# EAGLE library part LT3570EFEPBF (library Power)
Reglator
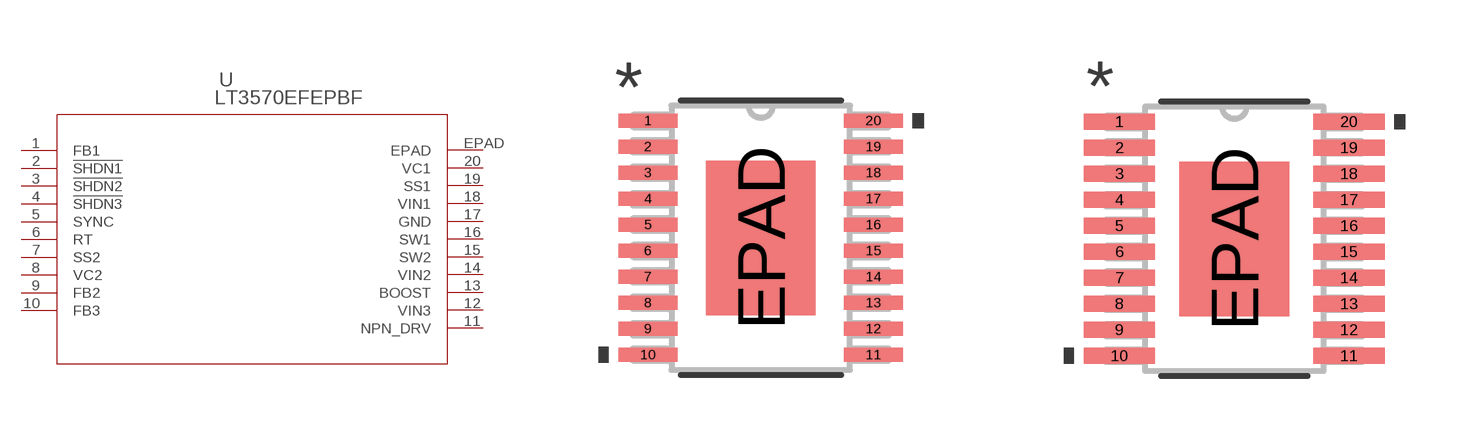
[diagram p0: symbol with the pads of TSSOP-20_FE/CB; footprints TSSOP-20_FE/CB, TSSOP-20_FE/CB-M]

Designator prefix U

## LT3570EFEPBF (MANUFACTURER_PART_NUMBER: lt3570efe#pbf; VENDOR: Linear Technology)  [TSSOP-20_FE/CB]
1  FB1  pas
2  !SHDN1  pas
3  !SHDN2  pas
4  !SHDN3  pas
5  SYNC  pas
6  RT  pas
7  SS2  pas
8  VC2  pas
9  FB2  pas
10  FB3  pas
11  NPN_DRV  pas
12  VIN3  in
13  BOOST  pas
14  VIN2  in
15  SW2  pas
16  SW1  pas
17  GND  pwr
18  VIN1  in
19  SS1  pas
20  VC1  pas
EPAD  EPAD  pas

## LT3570EFEPBFTSSOP-20_FE/CB-M (MANUFACTURER_PART_NUMBER: lt3570efe#pbf; VENDOR: Linear Technology)  [TSSOP-20_FE/CB-M]
Pads as for TSSOP-20_FE/CB

## LT3570EFEPBFTSSOP-20_FE/CB-L (MANUFACTURER_PART_NUMBER: lt3570efe#pbf; VENDOR: Linear Technology)  [TSSOP-20_FE/CB-L]
Pads as for TSSOP-20_FE/CB

## Footprint TSSOP-20_FE/CB (pad centres in mm)
smd 1.473 x 0.356: 1 -2.819,2.926; 2 -2.819,2.276; 3 -2.819,1.626; 4 -2.819,0.975; 5 -2.819,0.325; 6 -2.819,-0.325; 7 -2.819,-0.975; 8 -2.819,-1.626; 9 -2.819,-2.276; 10 -2.819,-2.926; 11 2.819,-2.926; 12 2.819,-2.276; 13 2.819,-1.626; 14 2.819,-0.975; 15 2.819,-0.325; 16 2.819,0.325; 17 2.819,0.975; 18 2.819,1.626; 19 2.819,2.276; 20 2.819,2.926
smd 2.743 x 3.861: EPAD 0,0

## Footprint TSSOP-20_FE/CB-M (pad centres in mm)
smd 1.778 x 0.406: 1 -2.87,2.926; 2 -2.87,2.276; 3 -2.87,1.626; 4 -2.87,0.975; 5 -2.87,0.325; 6 -2.87,-0.325; 7 -2.87,-0.975; 8 -2.87,-1.626; 9 -2.87,-2.276; 10 -2.87,-2.926; 11 2.87,-2.926; 12 2.87,-2.276; 13 2.87,-1.626; 14 2.87,-0.975; 15 2.87,-0.325; 16 2.87,0.325; 17 2.87,0.975; 18 2.87,1.626; 19 2.87,2.276; 20 2.87,2.926
smd 2.743 x 3.861: EPAD 0,0

## Footprint TSSOP-20_FE/CB-L (pad centres in mm)
smd 1.168 x 0.305: 1 -2.769,2.926; 2 -2.769,2.276; 3 -2.769,1.626; 4 -2.769,0.975; 5 -2.769,0.325; 6 -2.769,-0.325; 7 -2.769,-0.975; 8 -2.769,-1.626; 9 -2.769,-2.276; 10 -2.769,-2.926; 11 2.769,-2.926; 12 2.769,-2.276; 13 2.769,-1.626; 14 2.769,-0.975; 15 2.769,-0.325; 16 2.769,0.325; 17 2.769,0.975; 18 2.769,1.626; 19 2.769,2.276; 20 2.769,2.926
smd 2.743 x 3.861: EPAD 0,0